# Altium footprint library EXB-28.PcbLib: 1 footprints
Each footprint in its own frame and in the unit in brackets; x right, y up, seen from the top. Pads: shape width x height; smd on the part's side, far side on the other; paste and mask are expansions set on the pad; w line width, h text height; cw(c..) or ccw(c..) is an arc to the next point about the centre after c.
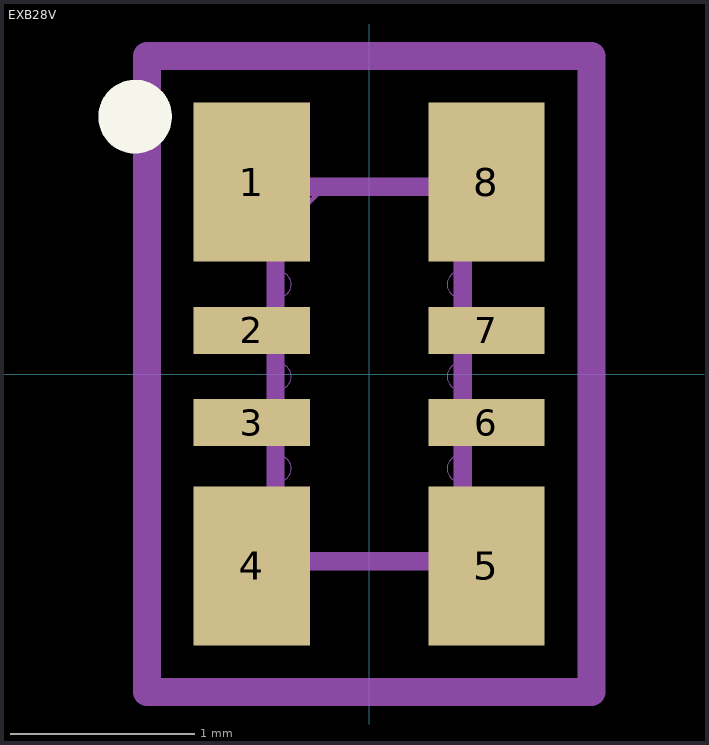
[diagram p0: the footprint, top view; thin cyan lines are the x and y axes]

## EXB28V [mil]
pads (8):
  rect 24.84x34 smd paste+0 mask+0: 1(-25.08,41) 4(-25.08,-41) 5(25.08,-41) 8(25.08,41)
  rect 24.84x10 smd paste+0 mask+0: 2(-25.08,9.31) 3(-25.08,-10.38) 6(25.08,-10.38) 7(25.08,9.31)
Top Overlay:
  circle w7.87: c-50,55 r3.94
Mechanical 1:
  lines w3.94: -20,-40 20,-40 20,40 -20,40 -20,-40
Mechanical 13:
  lines w0: -19.5,-23.07 ccw(c-19.5,-20.23) -19.5,-17.38 ; -19.5,-3.38 ccw(c-19.5,-0.54) -19.5,2.31 ; -19.5,16.31 ccw(c-19.5,19.16) -19.5,22 ; 19.5,-23.07 cw(c19.5,-20.23) 19.5,-17.38 ; 19.5,-3.38 cw(c19.5,-0.54) 19.5,2.31 ; 19.5,16.31 cw(c19.5,19.16) 19.5,22
  lines w1: -19.5,-23.07 -19.5,-22 -19.5,-40 19.5,-40 19.5,-22 19.5,-23.07 ; -19.5,-17.38 -19.5,-3.38 ; -19.5,2.31 -19.5,16.31 ; -19.5,22 -19.5,40 19.5,40 19.5,22 ; -19.5,30 -9.5,40 ; 19.5,-17.38 19.5,-3.38 ; 19.5,2.31 19.5,16.31
Mechanical 15:
  lines w6: -47.5,-68 -47.5,68 47.5,68 47.5,-68 -47.5,-68
3D body "C_ARRAY_EXB28V_PAN.step": height 17.99, standoff 0, extent -19.49,-40 19.49,40